# EAGLE library part USB-A_DUAL_ (library Conn - USB,DVI,HDMI)
USB - A, Stacked USB 2.0 Receptacle Connector 8 Position Through Hole, Right Angle, Horizontal Amphenol FCI: 72309-8034BLF
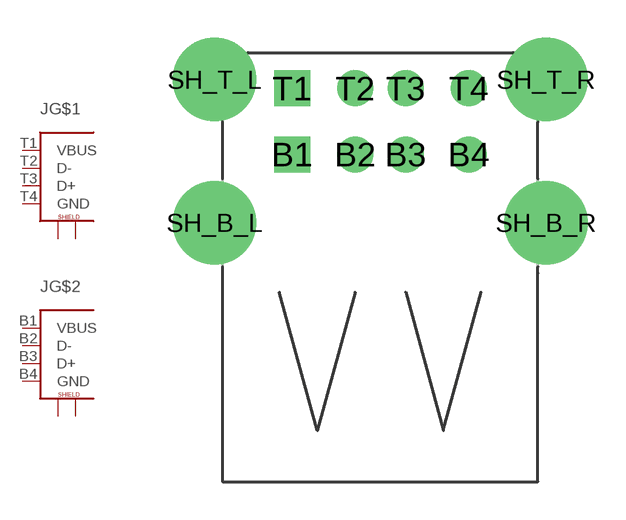
[diagram p0: symbol with the pads of USB-A_DUAL_RA; footprint USB-A_DUAL_RA]

Designator prefix J; gates G$1=USB-A G$2=USB-A

## USB-A_DUAL_RA  [USB-A_DUAL_RA]
B1  G$2:VBUS
B2  G$2:D-
B3  G$2:D+
B4  G$2:GND
SH_B_L  G$2:P$1
SH_B_R  G$2:P$2
SH_T_L  G$1:P$1
SH_T_R  G$1:P$2
T1  G$1:VBUS
T2  G$1:D-
T3  G$1:D+
T4  G$1:GND

## Footprint USB-A_DUAL_RA (pad centres in mm)
drill 0.92 square: B1 -3.5,2.71; T1 -3.5,5.33
drill 0.92: B2 -1,2.71; B3 1,2.71; B4 3.5,2.71; T2 -1,5.33; T3 1,5.33; T4 3.5,5.33
drill 2.3: SH_B_L -6.57,0; SH_B_R 6.57,0; SH_T_L -6.57,5.68; SH_T_R 6.57,5.68